# Altium schematic symbol library P1.SCHLIB: 1 symbol
Pins are listed as number, name and electrical type; pins without a type are passive.

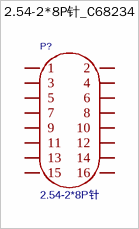
[diagram p0: symbol 2.54-2*8P针_C68234]

## 2.54-2*8P针_C68234
designator P?, comment 2.54-2*8P针
Pin Structure:2x8P Pitch:2.54mm Row Spacing:2.54mm Circluar Pins/Square Pins:Pin Header Mounting Type:Through Hole Number of Rows:2 Number of Pins:16P Current Rating:3A Voltage Rating (Max):- Length of Mating Pin:5.9mm Insulation Height:2.54mm Length of E; Manufacturer: BOOMELE(博穆精密); Symbol: Header-Male-2.54_2x8; Device: 2.54-2*8P针_C68234; AddInBom: yes; ModelId: e9bbe0154d6648aeb599214ae56f6999聨0819f05c4eef4c71ace90d822a990e87; ModelName: HDR2.54-M-LI-2X8P; ModelTransform: 799.99844,200,0,0,0,0,0,0,-118.11; Pin Structure: 2x8P; Pitch: 2.54mm; Current Rating: 3A; Supplier: LCSC; Manufacturer Part: 2.54-2*8P针; Supplier Part: C68234; JLCPCB Part Class: Extended Part; LCSC Part Name: 2x8P 间距:2.54mm 方针 直插; Supplier Footprint: 插件,P=2.54mm; Datasheet: https://item.szlcsc.com/datasheet/2.54-2*8P%25E9%2592%2588/69336.html; ConvertToPcb: yes; FootprintName: HDR-TH_16P-P2.54-V-M-R2-C8-S2.54; Row Spacing: 2.54mm; Circluar Pins/Square Pins: Pin Header; Mounting Type: Through Hole; Number of Rows: 2; Number of Pins: 16P; Voltage Rating (Max): -; Length of Mating Pin: 5.9mm; Insulation Height: 2.54mm; Length of End Connection Pin: 3mm; Contact Material: Brass; Contact Plating: Gold; Operating Temperature: -55℃~+105℃; Color: Black
footprint HDR-TH_16P-P2.54-V-M-R2-C8-S2.54
pins: 1, 2, 3, 4, 5, 6, 7, 8, 9, 10, 11, 12, 13, 14, 15, 16